# Altium integrated library Buzzer-CMI-1295IC-0585T.IntLib: 1 symbol
Pins are listed as number, name and electrical type; pins without a type are passive.

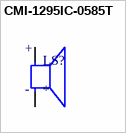
[diagram p0: symbol CMI-1295IC-0585T]

## CMI-1295IC-0585T
designator LS?
12 mm, 5 Vdc, 85 dB, Through Hole, Driving Circuit, Magnetic Audio Indicator Buzzer; MP: CMI-1295IC-0585T; MF: CUI Devices; Purchase-URL: https://pricing.snapeda.com/search/part/CMI-1295IC-0585T/?ref=eda; CUI_purchase_URL: https://www.cuidevices.com/product/audio/buzzers/audio-indicators/cmi-1295ic-0585t?utm_source=snapeda.com&utm_medium=referral&utm_campaign=snapedaBOM; Package: Package; SnapEDA_Link: https://www.snapeda.com/parts/CMI-1295IC-0585T/CUI+Devices/view-part/?ref=snap; Value: *; Check_prices: https://www.snapeda.com/parts/CMI-1295IC-0585T/CUI+Devices/view-part/?ref=eda; Availability: In Stock; Price: None
footprint CUI_CMI-1295IC-0585T
pins: N, P
text: +; -